# Altium schematic symbol library Noninverting_Summing_Amp.SchLib: 1 symbol
Pins are listed as number, name and electrical type; pins without a type are passive.

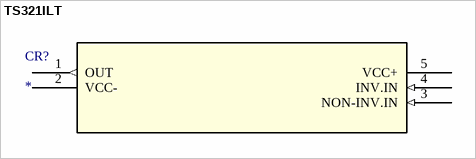
[diagram p0: symbol TS321ILT]

## TS321ILT
designator CR?
Imported; Manufacturer_Part_Number: TS321ILT; Vendor: STMicroelectronics; Built_By: EMA_UL_Team; C: Copyright (C) 2015 Accelerated Designs. All rights reserved; Value: Value; Type: Type; RefDes: RefDes
footprint SOT23-5-M
pins: 1 OUT (out), 2 VCC- (power), 3 NON-INV.IN (in), 4 INV.IN (in), 5 VCC+ (power)